# Altium footprint library Capacitors.PcbLib: 43 footprints (part 2 of 3)
Each footprint in its own frame and in the unit in brackets; x right, y up, seen from the top. Pads: shape width x height; smd on the part's side, far side on the other; paste and mask are expansions set on the pad; w line width, h text height; cw(c..) or ccw(c..) is an arc to the next point about the centre after c.
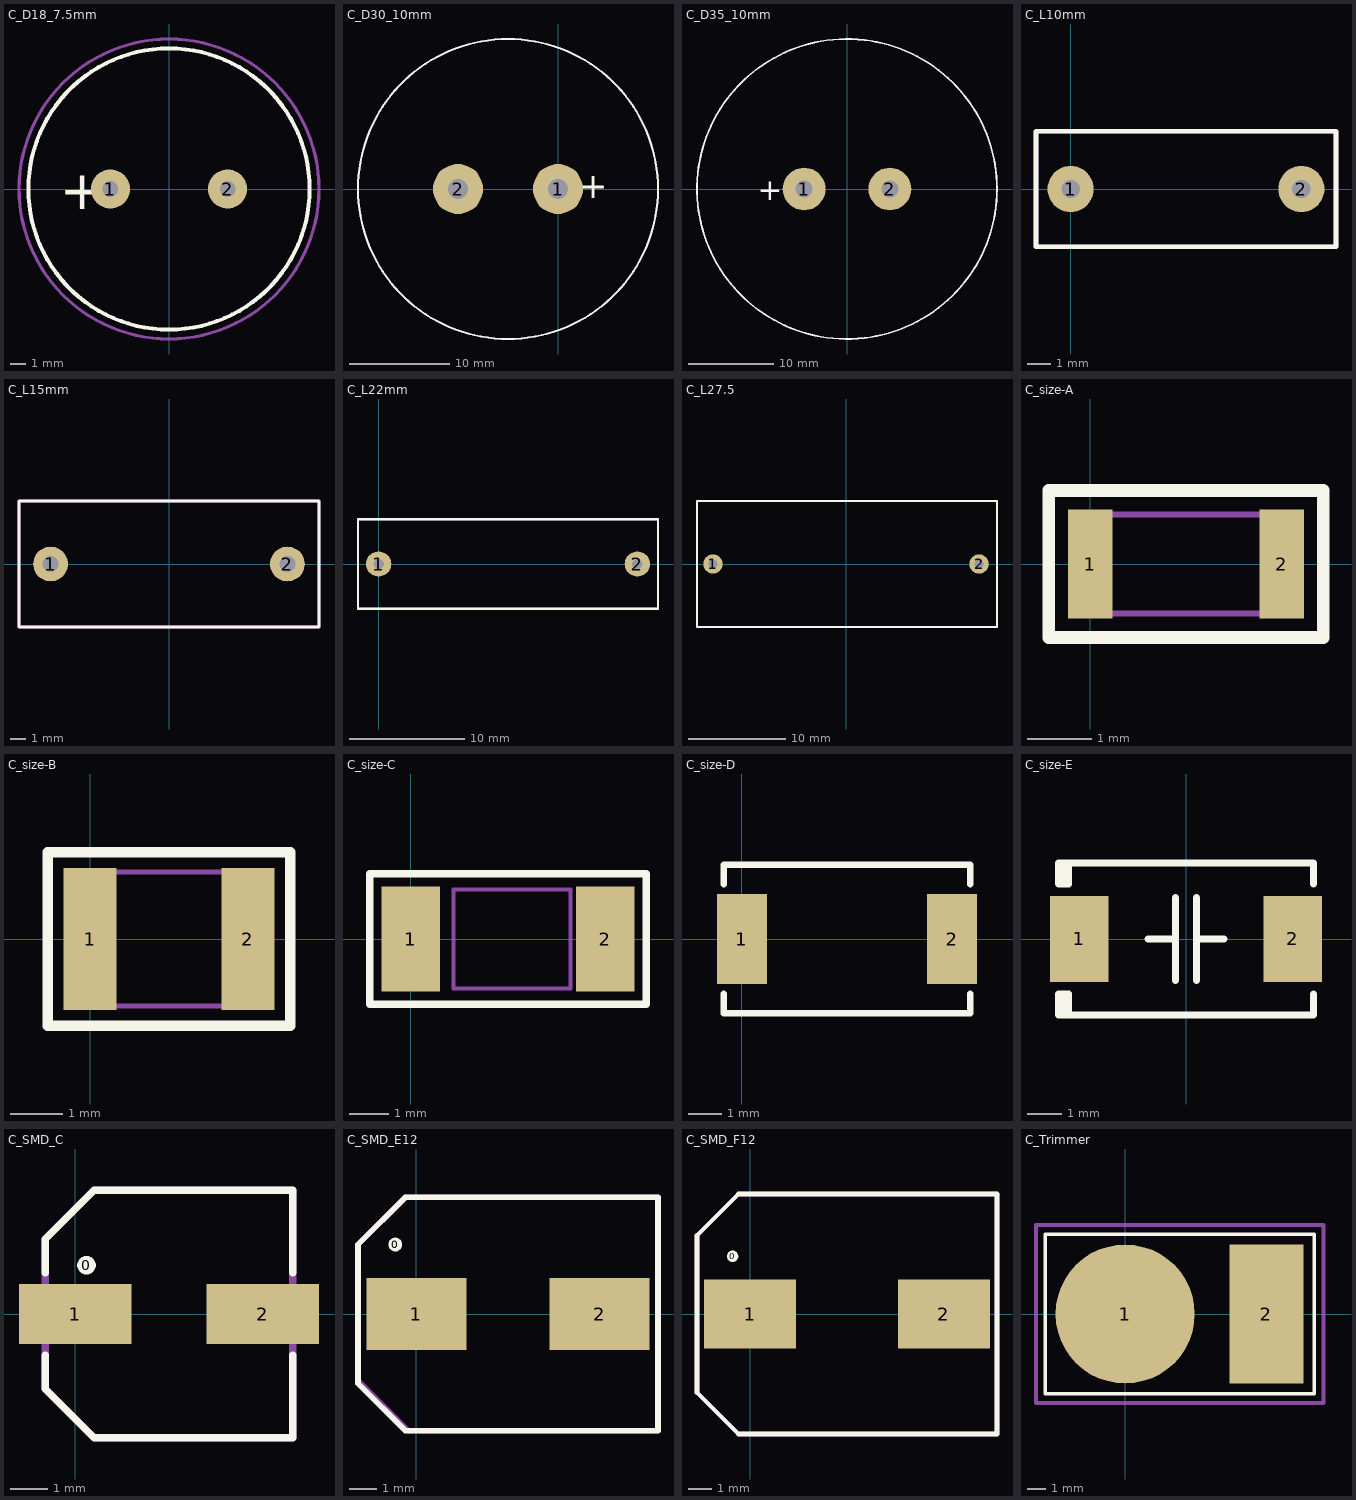
[diagram p1: the footprints below, top view; thin cyan lines are the x and y axes]

## C_D18_7.5mm [mm]
height 20
pads (2):
  round 2.5 hole 1: 1(-3.75,0) 2(3.75,0)
Top Overlay:
  circle w0.254: c0,0 r9
  text "+" at -7,-1.3 h2.52
Mechanical 15:
  circle w0.2: c0,0 r9.6

## C_D30_10mm [mm]
height 43
pads (2):
  round 5 hole 2: 1(0,0) 2(-10,0)
Top Overlay:
  circle w0.2: c-5,0 r15
  text "+" at 5,1.3 h2.52
Mechanical 15:
  circle w0.2: c-5,0 r15
3D body "User Library-Assy_CE_R400_D1200_H1450.STEP": height 5.89, standoff -37.83, extent -20.203,-15.2 10.277,15.274

## C_D35_10mm [mm]
height 50
pads (2):
  round 5 hole 2: 1(-5,0) 2(5,0)
Top Overlay:
  circle w0.2: c0,0 r17.5
  text "+" at -10.4,-1.3 h2.52
TopAssy:
  circle w0.2: c0,0 r17.5
3D body "User Library-CE_Assy.STEP": height 31.5, standoff -6.32, extent -17.36,-17.611 17.5,17.292

## C_L10mm [mm]
height 10
pads (2):
  round 2 hole 0.8: 1(0,0) 2(10,0)
Top Overlay:
  lines w0.2: -1.5,-2.5 -1.5,2.5 11.5,2.5 11.5,-2.5 -1.5,-2.5
TopAssy:
  lines w0.2: -1.5,-2.5 11.5,-2.5 11.5,2.5 -1.5,2.5 -1.5,-2.5
3D body "User Library-Capacitor MKT_B32591C3104 (Pitch 10mm).STEP": height 13.5, standoff -5, extent -1.5,-2.5 11.5,2.5

## C_L15mm [mm]
height 10
pads (2):
  round 2.2 hole 1: 1(-7.5,0) 2(7.5,0)
Top Overlay:
  lines w0.2: -9.5,-4 9.5,-4 9.5,4 -9.5,4 -9.5,-4
TopAssy:
  lines w0.2: -9.5,-4 -9.5,4 9.5,4 9.5,-4 -9.5,-4
3D body "User Library-CAP_POLY_15mm.STEP": height 16.5, standoff -3.5, extent -9.5,-4 9.5,4

## C_L22mm [mm]
height 15
pads (2):
  round 2.2 hole 0.9: 1(0,0) 2(22.5,0)
Top Overlay:
  lines w0.2: -1.8,-3.9 -1.8,3.9 24.3,3.9 24.3,-3.9 -1.8,-3.9
TopAssy:
  lines w0.2: -1.8,-3.9 24.3,-3.9 24.3,3.9 -1.8,3.9 -1.8,-3.9
3D body "SW3dPS-ECQE(F) 0.33uf 630Vdc 250Vac.STEP": height 19, standoff -3, extent -1.75,-3.9 24.25,3.9

## C_L27.5 [mm]
height 21
pads (2):
  round 2 hole 0.9: 1(-13.75,0) 2(13.75,0)
Top Overlay:
  lines w0.2: -15.4,-6.5 -15.4,6.5 15.6,6.5 15.6,-6.5 -15.4,-6.5
Mechanical 15:
  lines w0.2: -15.4,-6.5 15.6,-6.5 15.6,6.5 -15.4,6.5 -15.4,-6.5
3D body "User Library-Vishay_1uF-400V_MKT_373_STD_27_5pitch.STEP": height 23, standoff -3, extent -15.4,-6.5 15.6,6.5

## C_size-A [mm] "Chip Capacitor, Body 3.2x1.6mm, IPC High Density"
height 1.3
pads (2):
  rect 0.7x1.7 smd: 1(0,0) 2(3,0)
Top Overlay:
  lines w0.2: -0.65,-1.15 -0.65,1.15 3.65,1.15 3.65,-1.15 -0.65,-1.15
TopAssy:
  lines w0.1: 0,-0.775 0,0.775 3,0.775 3,-0.775 0,-0.775
3D body "User Library-AVX_ACASE.STEP": height 1.71, standoff 0, extent -0.2,-0.84 3.2,0.84

## C_size-B [mm] "Chip Capacitor, Body 3.2x2.5mm, IPC High Density"
height 1.3
pads (2):
  rect 1x2.7 smd: 1(0,0) 2(3,0)
Top Overlay:
  lines w0.2: -0.8,-1.65 -0.8,1.65 3.8,1.65 3.8,-1.65 -0.8,-1.65
TopAssy:
  lines w0.1: 0,-1.275 3,-1.275 3,1.275 0,1.275 0,-1.275
3D body "User Library-AVX_BCASE.STEP": height 2.03, standoff 0, extent -0.35,-1.465 3.35,1.465

## C_size-C [mm] "Chip Capacitor, Body 3.2x2.5mm, IPC High Density"
height 1.3
pads (2):
  rect 1.5x2.7 smd: 1(0,0) 2(5,0)
Top Overlay:
  lines w0.2: -1.05,-1.675 -1.05,1.675 6.05,1.675 6.05,-1.675 -1.05,-1.675
TopAssy:
  lines w0.1: 1.1,-1.275 4.1,-1.275 4.1,1.275 1.1,1.275 1.1,-1.275
3D body "User Library-AVX_C_CASE.STEP": height 2.7, standoff 0, extent -0.55,-1.675 5.55,1.675

## C_size-D [mm] "Chip Capacitor, Body 3.2x2.5mm, IPC High Density"
height 1.3
pads (2):
  rect 1.5x2.7 smd: 1(0,0) 2(6.3,0)
Top Overlay:
  lines w0.2: -0.55,-1.65 -0.55,-2.225 6.85,-2.225 6.85,-1.65 ; -0.55,1.65 -0.55,2.225 6.85,2.225 6.85,1.65
3D body "User Library-AVX_D_CASE.STEP": height 3.01, standoff 0, extent -0.55,-2.225 6.85,2.225

## C_size-E [mm] "Chip Capacitor, Body 3.2x2.5mm, IPC High Density"
height 4.1
pads (2):
  rect 1.7x2.5 smd: 1(-3.1,0) 2(3.1,0)
Top Overlay:
  lines w0.2: -3.55,-2.2 -3.55,-1.6 ; -3.55,2.2 -3.55,1.75 -3.4,1.6 ; -3.4,2.1 -3.4,1.6 ; -1.1,0 -0.3,0 ; -0.3,-1.2 -0.3,1.2 ; 0.3,-1.2 0.3,1.2 ; 0.3,0 1.1,0 ; 3.7,-1.6 3.7,-2.2 -3.7,-2.2 ; 3.7,1.6 3.7,2.2 -3.7,2.2 -3.7,1.6 -3.4,1.6 ; -3.7,-2.2 -3.4,-2.2 -3.4,-1.6 -3.7,-1.6 ; -3.7,-2.2 -3.7,-1.6 ; -3.7,-2.2 -3.7,-1.6
3D body "User Library-AVX_E_CASE.STEP": height 4.2, standoff 0, extent -3.7,-2.225 3.701,2.225

## C_SMD_C [mm] "Molded Capacitor, 2-Leads, Body 3,2x1,6mm, IPC Medium Density"
height 1.8
pads (3):
  round 0.5 on Top Overlay: 0(0.3,1.3)
  rect 3x1.6 smd: 1(0,0) 2(5,0)
Top Overlay:
  lines w0.2: -0.8,-1.1 -0.8,-2 0.5,-3.3 5.8,-3.3 5.8,-1.1 ; -0.8,1.1 -0.8,2 0.5,3.3 5.8,3.3 5.8,1.1
TopAssy:
  lines w0.2: -0.8,-2 -0.8,2 0.5,3.3 5.8,3.3 5.8,-3.3 0.5,-3.3 -0.8,-2
3D body "SW3dPS-capacitor size D.STEP": height 5.41, standoff -0.01, extent -1,-3.3 6,3.3

## C_SMD_E12 [mm] "Molded Capacitor, 2-Leads, Body 3,2x1,6mm, IPC Medium Density"
height 1.8
pads (3):
  round 0.5 on Top Overlay: 0(-0.757,2.5)
  rect 3.6x2.6 smd: 1(0,0) 2(6.6,0)
Top Overlay:
  lines w0.2: -2.1,-2.5 -2.1,2.5 -0.4,4.2 8.7,4.2 8.7,-4.2 -0.4,-4.2 -2.1,-2.5
TopAssy:
  lines w0.2: -2.1,-2.4 -2.1,2.5 -0.4,4.2 8.7,4.2 8.7,-4.2 -0.3,-4.2 -2.1,-2.4
3D body "User Library-SMD Polymer Aluminum Electrolytic Capacitors E12.STEP": height 11.9, standoff -0.05, extent -1.2,-4.15 7.8,4.15

## C_SMD_F12 [mm] "Molded Capacitor, 2-Leads, Body 3,2x1,6mm, IPC Medium Density"
height 1.8
pads (3):
  round 0.5 on Top Overlay: 0(-0.757,2.5)
  rect 4x3 smd: 1(0,0) 2(8.4,0)
Top Overlay:
  lines w0.2: -2.3,-3.4 -0.5,-5.2 10.7,-5.2 10.7,5.2 -0.5,5.2 -2.3,3.4 -2.3,-3.4
TopAssy:
  lines w0.2: -2.3,-3.4 -0.5,-5.2 10.7,-5.2 10.7,5.2 -0.5,5.2 -2.3,3.4 -2.3,-3.4
3D body "User Library-SMD Polymer Aluminum Electrolytic Capacitors F12.STEP": height 11.1, standoff -0.05, extent -1.25,-5.15 9.75,5.15

## C_Trimmer [mm]
pads (2):
  round 7.5 smd: 1(0,0)
  rect 4x7.5 smd: 2(7.62,0)
Top Overlay:
  lines w0.2: -4.3,-4.3 10.2,-4.3 10.2,4.3 -4.3,4.3 -4.3,-4.3
Mechanical 15:
  lines w0.2: -4.8,-4.8 10.7,-4.8 10.7,4.8 -4.8,4.8 -4.8,-4.8